# EAGLE library part FPC-25WAY (library pimoroni-fpc)
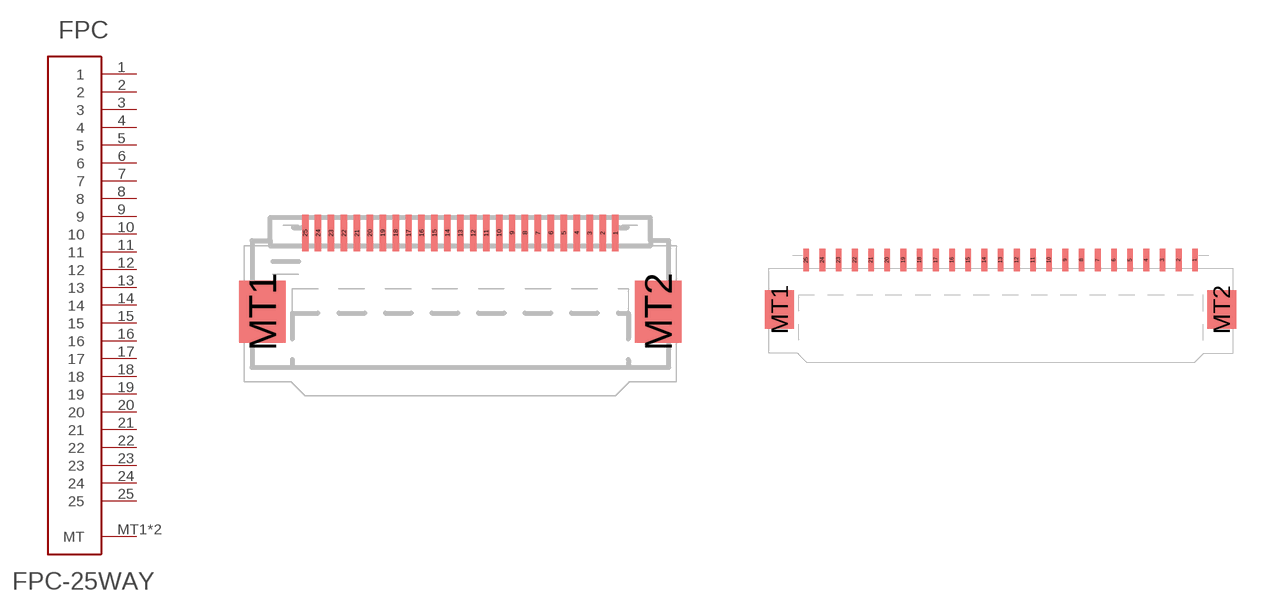
[diagram p20: symbol with the pads of FPC-0.5MM-25WAY; footprints FPC-0.5MM-25WAY, FPC-1.0MM-25WAY]

Designator prefix FPC

## FPC-25WAY0.5  [FPC-0.5MM-25WAY]
1  1
2  2
3  3
4  4
5  5
6  6
7  7
8  8
9  9
10  10
11  11
12  12
13  13
14  14
15  15
16  16
17  17
18  18
19  19
20  20
21  21
22  22
23  23
24  24
25  25
MT1  MT
MT2  MT

## FPC-25WAY1.0  [FPC-1.0MM-25WAY]
Pads as for FPC-0.5MM-25WAY

## Footprint FPC-0.5MM-25WAY (pad centres in mm)
smd 0.25 x 1.4: 1 6,0.7; 2 5.5,0.7; 3 5,0.7; 4 4.5,0.7; 5 4,0.7; 6 3.5,0.7; 7 3,0.7; 8 2.5,0.7; 9 2,0.7; 10 1.5,0.7; 11 1,0.7; 12 0.5,0.7; 13 0,0.7; 14 -0.5,0.7; 15 -1,0.7; 16 -1.5,0.7; 17 -2,0.7; 18 -2.5,0.7; 19 -3,0.7; 20 -3.5,0.7; 21 -4,0.7; 22 -4.5,0.7; 23 -5,0.7; 24 -5.5,0.7; 25 -6,0.7
smd 1.8 x 2.4: MT1 -7.65,-2.35; MT2 7.65,-2.35

## Footprint FPC-1.0MM-25WAY (pad centres in mm)
smd 0.35 x 1.4: 1 12,0.7; 2 11,0.7; 3 10,0.7; 4 9,0.7; 5 8,0.7; 6 7,0.7; 7 6,0.7; 8 5,0.7; 9 4,0.7; 10 3,0.7; 11 2,0.7; 12 1,0.7; 13 0,0.7; 14 -1,0.7; 15 -2,0.7; 16 -3,0.7; 17 -4,0.7; 18 -5,0.7; 19 -6,0.7; 20 -7,0.7; 21 -8,0.7; 22 -9,0.7; 23 -10,0.7; 24 -11,0.7; 25 -12,0.7
smd 1.8 x 2.4: MT1 -13.65,-2.35; MT2 13.65,-2.35